# EAGLE library part ACT4088 (library Regulator)
The ACT4088 is a current-mode step-down DC/DC converter that supplies up to 1.5A into 5V from a 12V input. 1.4MHz switching frequency allows the use of tiny external components, and internal loop compensation provides simple, stable power supplies with a minimum of external components. Optimized for use with ceramic input and output capacitors, the ACT4088 provides a very compact 1.5A power supply for space constrained mobile and consumer applications. The ACT4088 operates over a wide input voltage range and utilizes current-mode operation to provide excellent line and load transient response while requiring no external compensation components. Fault protection includes cycle-by-cycle current limiting, frequency fold-back, hiccup mode, and thermal shutdown. Internal soft-start provides a controlled startup with no overshoot, even at light loads. The ACT4088 is available in a tiny SOT23-6 package and requires very few external components.
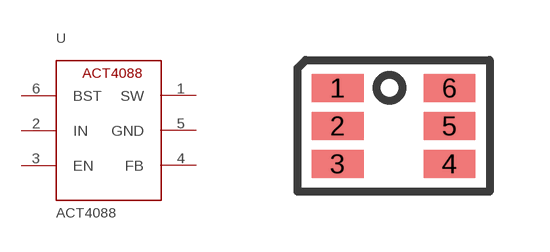
[diagram p6: symbol with the pads of SOT-23-6; footprint SOT-23-6]

Designator prefix U

## ACT4088US-T  [SOT-23-6]
1  SW
2  IN  pwr
3  EN
4  FB
5  GND  pwr
6  BST

## Footprint SOT-23-6 (pad centres in mm)
smd 1.3 x 0.7: 1 0.1,0; 2 0.1,-0.95; 3 0.1,-1.9; 4 2.9,-1.9; 5 2.9,-0.95; 6 2.9,0